# EAGLE library part ES920LR (library FaBo-LoRa)
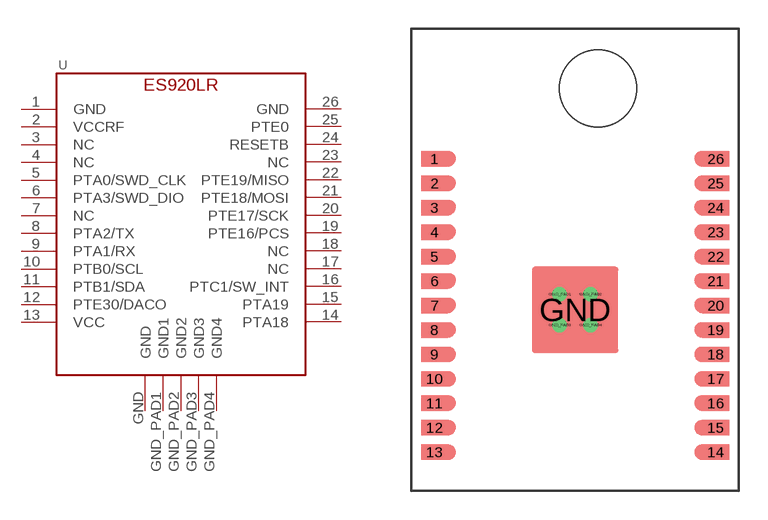
[diagram p0: symbol with the pads of ES920LR; footprint ES920LR]

Designator prefix U

## ES920LR  [ES920LR]
1  GND
2  VCCRF
3  NC
4  NC
5  PTA0/SWD_CLK
6  PTA3/SWD_DIO
7  NC
8  PTA2/TX
9  PTA1/RX
10  PTB0/SCL
11  PTB1/SDA
12  PTE30/DACO
13  VCC
14  PTA18
15  PTA19
16  PTC1/SW_INT
17  NC
18  NC
19  PTE16/PCS
20  PTE17/SCK
21  PTE18/MOSI
22  PTE19/MISO
23  NC
24  RESETB
25  PTE0
26  GND
GND  GND
GND_PAD1  GND1
GND_PAD2  GND2
GND_PAD3  GND3
GND_PAD4  GND4

## Footprint ES920LR (pad centres in mm)
smd 1.4 x 0.8: 1 -7.3,5.24; 2 -7.3,3.97; 3 -7.3,2.7; 4 -7.3,1.43; 5 -7.3,0.16; 6 -7.3,-1.11; 7 -7.3,-2.38; 8 -7.3,-3.65; 9 -7.3,-4.92; 10 -7.3,-6.19; 11 -7.3,-7.46; 12 -7.3,-8.73; 13 -7.3,-10; 14 7.3,-10; 15 7.3,-8.73; 16 7.3,-7.46; 17 7.3,-6.19; 18 7.3,-4.92; 19 7.3,-3.65; 20 7.3,-2.38; 21 7.3,-1.11; 22 7.3,0.16; 23 7.3,1.43; 24 7.3,2.7; 25 7.3,3.97; 26 7.3,5.24
smd 4.5 x 4.5: GND 0,-2.6
drill 0.25: GND_PAD1 -0.8,-1.8; GND_PAD2 0.8,-1.8; GND_PAD3 -0.8,-3.4; GND_PAD4 0.8,-3.4